# Altium footprint library Converter_ACDC.PcbLib: 42 footprints (part 1 of 3)
Each footprint in its own frame and in the unit in brackets; x right, y up, seen from the top. Pads: shape width x height; smd on the part's side, far side on the other; paste and mask are expansions set on the pad; w line width, h text height; cw(c..) or ccw(c..) is an arc to the next point about the centre after c.
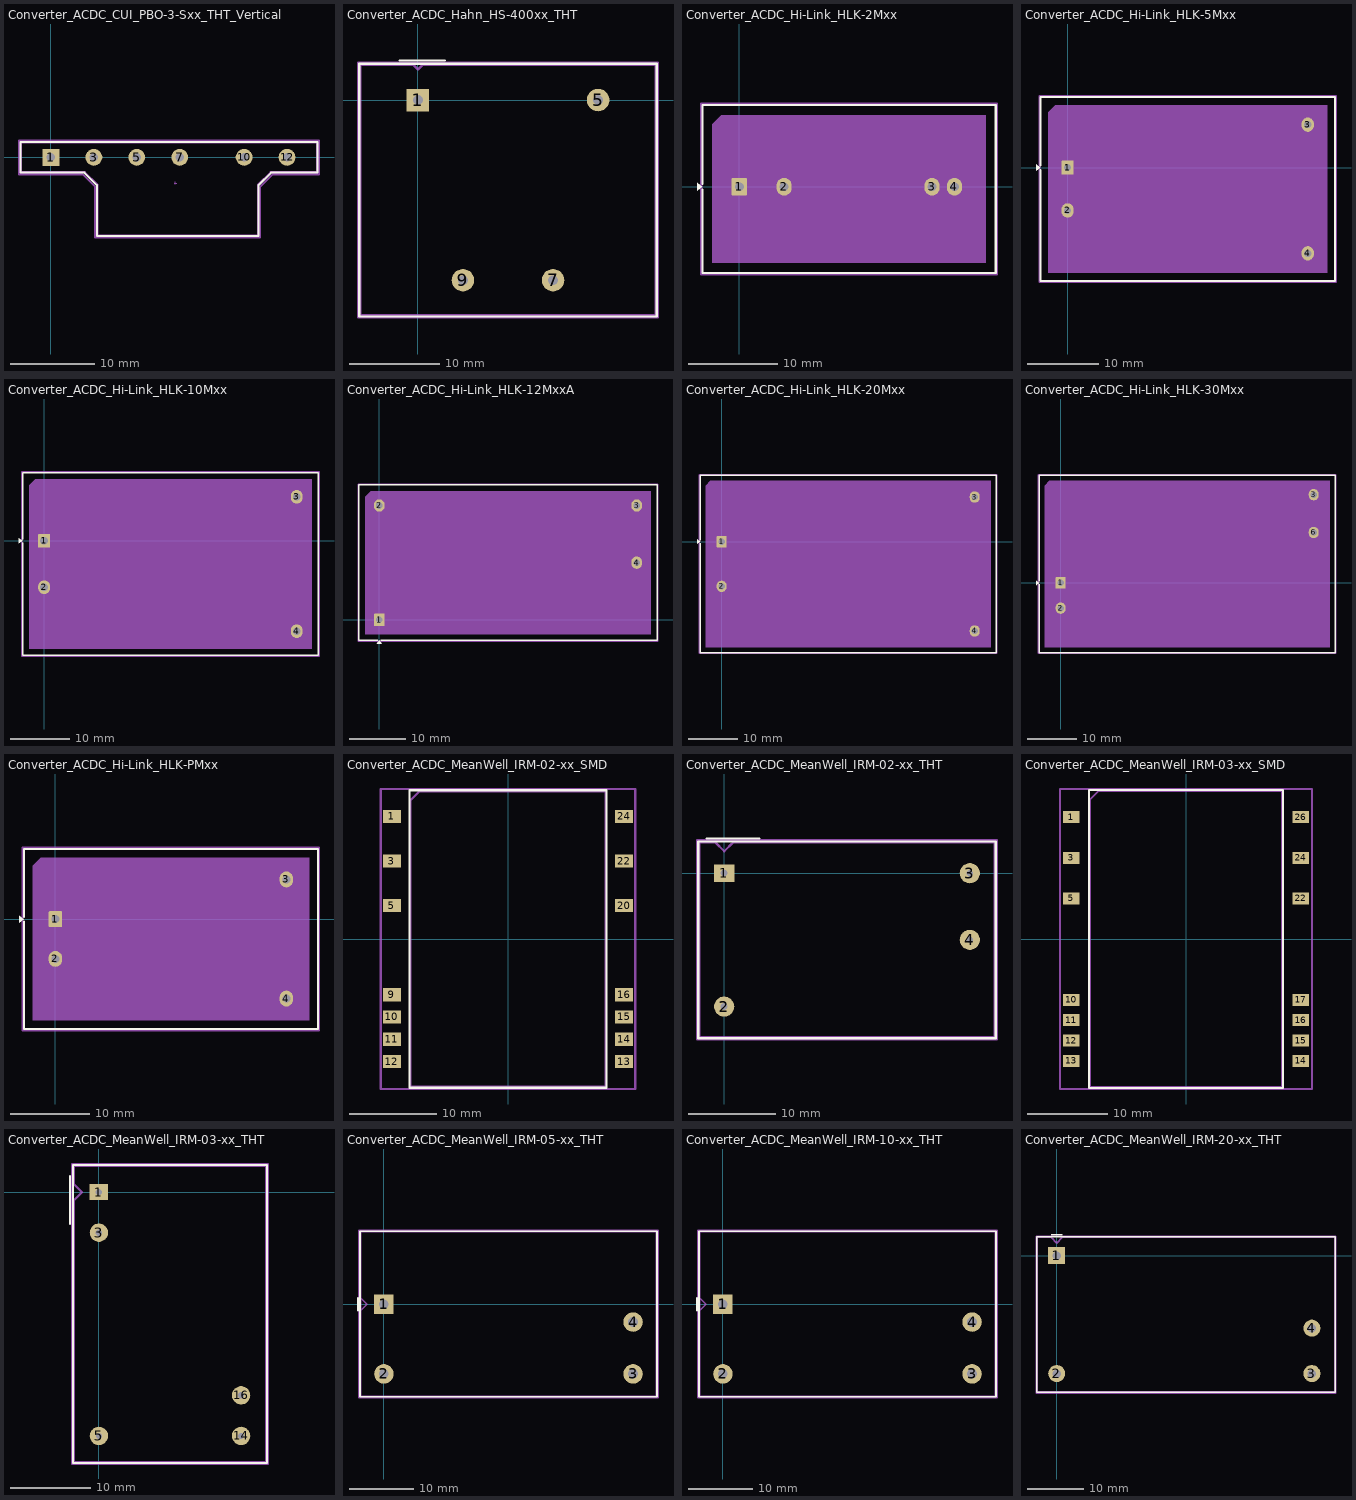
[diagram p0: the footprints below, top view; thin cyan lines are the x and y axes]

## Converter_ACDC_CUI_PBO-3-Sxx_THT_Vertical [mm]
pads (6):
  rect 2x2 hole 1: 1(0,0)
  round 2 hole 1: 3(5.08,0) 5(10.16,0) 7(15.24,0) 10(22.86,0) 12(27.94,0)
F.SilkS:
  lines w0.254: -3.59,-1.81 3.94,-1.81 5.44,-3.31 5.44,-9.31 24.56,-9.31 24.56,-3.31 26.06,-1.81 31.53,-1.81 31.53,1.81 -3.59,1.81 -3.59,-1.81
Top Component Center:
  lines w0.127: 14.605,-3.048 14.859,-3.048 ; 14.732,-3.175 14.732,-2.921
Top Assembly:
  lines w0.254: -3.53,-1.75 4,-1.75 5.5,-3.25 5.5,-9.25 24.5,-9.25 24.5,-3.25 26,-1.75 31.47,-1.75 31.47,1.75 -3.53,1.75 -3.53,-1.75
  text "'.Designator'" at 11.653,-5.74 h1
Top Courtyard:
  lines w0.254: -3.78,-2 3.75,-2 5.25,-3.5 5.25,-9.5 24.75,-9.5 24.75,-3.5 26.25,-2 31.72,-2 31.72,2 -3.78,2 -3.78,-2
Top Designator:
  text ".Designator" at 6.352,-4.258 h1.52

## Converter_ACDC_Hahn_HS-400xx_THT [mm]
pads (4):
  rect 2.5x2.5 hole 1.1: 1(0,0)
  round 2.5 hole 1.1: 5(20,0) 7(15,-20) 9(5,-20)
F.SilkS:
  lines w0.254: -2,4.4 3,4.4 ; -6.52,-24.02 26.52,-24.02 26.52,4.02 -6.52,4.02 -6.52,-24.02
Top Assembly:
  lines w0.254: -6.4,-23.9 26.4,-23.9 26.4,3.9 0.5,3.9 0,3.4 -0.5,3.9 -6.4,3.9 -6.4,-23.9
  text "'.Designator'" at 5.953,-10.84 h1
Top Courtyard:
  lines w0.254: -6.65,-24.15 26.65,-24.15 26.65,4.15 -6.65,4.15 -6.65,-24.15
Top Designator:
  text ".Designator" at 2.382,-10.383 h1.52

## Converter_ACDC_Hi-Link_HLK-2Mxx [mm]
pads (4):
  rrect15% 1.7x2 hole 1: 1(0,0)
  rrect100% 1.7x2 hole 1: 2(5,0) 3(21.5,0) 4(24,0)
F.SilkS:
  region: -4.11,0 -4.72,-0.44 -4.72,0.44
  lines w0.254: -4.11,-0.296 -4.11,-9.61 28.61,-9.61 28.61,9.11 -4.11,9.11 -4.11,0.296
Top Assembly:
  region: 27.5,-8.5 -3,-8.5 -3,7 -2,8 27.5,8
  text "'.Designator'" at 8.203,-1.09 h1
Top Courtyard:
  lines w0.254: -4.25,-9.75 28.75,-9.75 28.75,9.25 -4.25,9.25 -4.25,-9.75
Top Designator:
  text ".Designator" at 4.461,-0.758 h1.52

## Converter_ACDC_Hi-Link_HLK-5Mxx [mm]
pads (4):
  rrect15% 1.7x2 hole 1: 1(0,0)
  rrect100% 1.7x2 hole 1: 2(0,-6) 3(33.6,6) 4(33.6,-12)
F.SilkS:
  region: -3.81,0 -4.42,-0.44 -4.42,0.44
  lines w0.254: -3.81,-0.296 -3.81,-15.86 37.41,-15.86 37.41,9.86 -3.81,9.86 -3.81,0.296
Top Assembly:
  region: 36.3,-14.75 -2.7,-14.75 -2.7,7.75 -1.7,8.75 36.3,8.75
  text "'.Designator'" at 12.753,-3.84 h1
Top Courtyard:
  lines w0.254: -3.95,-16 37.55,-16 37.55,10 -3.95,10 -3.95,-16
Top Designator:
  text ".Designator" at 9.011,-3.508 h1.52

## Converter_ACDC_Hi-Link_HLK-10Mxx [mm]
pads (4):
  rrect12% 2x2.3 hole 1.3: 1(0,0)
  rrect100% 2x2.3 hole 1.3: 2(0,-7.8) 3(42.5,7.4) 4(42.5,-15.2)
F.SilkS:
  region: -3.61,0 -4.22,-0.44 -4.22,0.44
  lines w0.254: -3.61,-0.296 -3.61,-19.26 46.11,-19.26 46.11,11.46 -3.61,11.46 -3.61,0.296
Top Assembly:
  region: 45,-18.15 -2.5,-18.15 -2.5,9.35 -1.5,10.35 45,10.35
  text "'.Designator'" at 17.203,-4.74 h1
Top Courtyard:
  lines w0.254: -3.75,-19.4 46.25,-19.4 46.25,11.6 -3.75,11.6 -3.75,-19.4
Top Designator:
  text ".Designator" at 13.461,-4.408 h1.52

## Converter_ACDC_Hi-Link_HLK-12MxxA [mm]
pads (4):
  rrect13% 1.9x2.2 hole 1.2: 1(0,0)
  rrect100% 1.9x2.2 hole 1.2: 2(0,20.32) 3(45.72,20.32) 4(45.72,10.16)
F.SilkS:
  region: 0.44,-4.26 -0.44,-4.26 0,-3.65
  lines w0.254: -0.296,-3.65 -3.65,-3.65 -3.65,23.97 49.37,23.97 49.37,-3.65 0.296,-3.65
Top Assembly:
  region: 48.26,-2.54 -2.54,-2.54 -2.54,21.86 -1.54,22.86 48.26,22.86
  text "'.Designator'" at 18.813,9.32 h1
Top Courtyard:
  lines w0.254: -3.79,-3.79 49.51,-3.79 49.51,24.11 -3.79,24.11 -3.79,-3.79
Top Designator:
  text ".Designator" at 15.242,9.481 h1.52

## Converter_ACDC_Hi-Link_HLK-20Mxx [mm]
pads (4):
  rrect12% 2x2.3 hole 1.3: 1(0,0)
  rrect100% 2x2.3 hole 1.3: 2(0,-9) 3(51,9) 4(51,-18)
F.SilkS:
  region: -4.36,0 -4.97,-0.44 -4.97,0.44
  lines w0.254: -4.36,-0.296 -4.36,-22.36 55.36,-22.36 55.36,13.36 -4.36,13.36 -4.36,0.296
Top Assembly:
  region: 54.25,-21.25 -3.25,-21.25 -3.25,11.25 -2.25,12.25 54.25,12.25
  text "'.Designator'" at 21.453,-5.34 h1
Top Courtyard:
  lines w0.254: -4.5,-22.5 55.5,-22.5 55.5,13.5 -4.5,13.5 -4.5,-22.5
Top Designator:
  text ".Designator" at 17.711,-5.008 h1.52

## Converter_ACDC_Hi-Link_HLK-30Mxx [mm]
pads (4):
  rrect12% 2x2.3 hole 1.3: 1(0,0)
  rrect100% 2x2.3 hole 1.3: 2(0,-5.08) 3(51,17.78) 6(51,10.16)
F.SilkS:
  region: -4.36,0 -4.97,-0.44 -4.97,0.44
  lines w0.254: -4.36,-0.296 -4.36,-14.05 55.36,-14.05 55.36,21.67 -4.36,21.67 -4.36,0.296
Top Assembly:
  region: 54.25,-12.94 -3.25,-12.94 -3.25,19.56 -2.25,20.56 54.25,20.56
  text "'.Designator'" at 21.453,2.97 h1
Top Courtyard:
  lines w0.254: -4.5,-14.19 55.5,-14.19 55.5,21.81 -4.5,21.81 -4.5,-14.19
Top Designator:
  text ".Designator" at 17.711,3.302 h1.52

## Converter_ACDC_Hi-Link_HLK-PMxx [mm]
pads (4):
  rrect15% 1.7x2 hole 1: 1(0,0)
  rrect100% 1.7x2 hole 1: 2(0,-5) 3(29.08,5) 4(29.08,-10)
F.SilkS:
  region: -3.97,0 -4.58,-0.44 -4.58,0.44
  lines w0.254: -3.97,-0.296 -3.97,-13.86 33.05,-13.86 33.05,8.86 -3.97,8.86 -3.97,0.296
Top Assembly:
  region: 31.94,-12.75 -2.86,-12.75 -2.86,6.75 -1.86,7.75 31.94,7.75
  text "'.Designator'" at 10.493,-3.34 h1
Top Courtyard:
  lines w0.254: -4.11,-14 33.19,-14 33.19,9 -4.11,9 -4.11,-14
Top Designator:
  text ".Designator" at 6.751,-3.008 h1.52

## Converter_ACDC_MeanWell_IRM-02-xx_SMD [mm]
pads (14):
  rect 2.03x1.5 smd: 1(-13.235,13.97) 3(-13.235,8.89) 5(-13.235,3.81) 9(-13.235,-6.35) 10(-13.235,-8.89) 11(-13.235,-11.43) 12(-13.235,-13.97) 13(13.235,-13.97) 14(13.235,-11.43) 15(13.235,-8.89) 16(13.235,-6.35) 20(13.235,3.81) 22(13.235,8.89) 24(13.235,13.97)
F.SilkS:
  lines w0.254: -11.22,-16.97 11.22,-16.97 11.22,16.97 -11.22,16.97 -11.22,-16.97
Top Assembly:
  lines w0.254: -11.1,-16.85 11.1,-16.85 11.1,16.85 -10.1,16.85 -11.1,15.85 -11.1,-16.85
  text "'.Designator'" at -4.047,-0.84 h1
Top Courtyard:
  lines w0.254: -14.5,-17.1 14.5,-17.1 14.5,17.1 -14.5,17.1 -14.5,-17.1
Top Designator:
  text ".Designator" at -7.618,-0.508 h1.52

## Converter_ACDC_MeanWell_IRM-02-xx_THT [mm]
pads (4):
  rect 2.3x2 hole 0.8: 1(0,0)
  round 2.3 hole 0.8: 2(0,-15.2)
  round 2.3 hole 0.76: 3(28,0) 4(28,-7.6)
F.SilkS:
  lines w0.254: -2,3.95 4,3.95 ; -2.97,-18.82 30.97,-18.82 30.97,3.62 -2.97,3.62 -2.97,-18.82
Top Assembly:
  lines w0.254: -2.85,-18.7 30.85,-18.7 30.85,3.5 1,3.5 0,2.5 -1,3.5 -2.85,3.5 -2.85,-18.7
  text "'.Designator'" at 9.983,-8.31 h1
Top Courtyard:
  lines w0.254: -3.1,-18.95 31.1,-18.95 31.1,3.75 -3.1,3.75 -3.1,-18.95
Top Designator:
  text ".Designator" at 6.382,-8.008 h1.52

## Converter_ACDC_MeanWell_IRM-03-xx_SMD [mm]
pads (14):
  rect 2.03x1.5 smd: 1(-14.35,15.24) 3(-14.35,10.16) 5(-14.35,5.08) 10(-14.35,-7.62) 11(-14.35,-10.16) 12(-14.35,-12.7) 13(-14.35,-15.24) 14(14.35,-15.24) 15(14.35,-12.7) 16(14.35,-10.16) 17(14.35,-7.62) 22(14.35,5.08) 24(14.35,10.16) 26(14.35,15.24)
F.SilkS:
  lines w0.254: -12.12,-18.62 12.12,-18.62 12.12,18.62 -12.12,18.62 -12.12,-18.62
Top Assembly:
  lines w0.254: -12,-18.5 12,-18.5 12,18.5 -11,18.5 -12,17.5 -12,-18.5
  text "'.Designator'" at -4.047,-0.84 h1
Top Courtyard:
  lines w0.254: -15.75,-18.76 15.75,-18.76 15.75,18.76 -15.75,18.76 -15.75,-18.76
Top Designator:
  text ".Designator" at -7.618,-0.508 h1.52

## Converter_ACDC_MeanWell_IRM-03-xx_THT [mm]
pads (5):
  rect 2.3x2 hole 0.8: 1(0,0)
  round 2.3 hole 0.8: 3(0,-5.08)
  round 2.3 hole 0.76: 5(0,-30.48) 14(17.78,-30.48) 16(17.78,-25.4)
F.SilkS:
  lines w0.254: -3.61,-4 -3.61,2 ; -3.23,-33.86 21.01,-33.86 21.01,3.38 -3.23,3.38 -3.23,-33.86
Top Assembly:
  lines w0.254: -3.11,-33.74 20.89,-33.74 20.89,3.26 -3.11,3.26 -3.11,1 -2.11,0 -3.11,-1 -3.11,-33.74
  text "'.Designator'" at 4.843,-15.08 h1
Top Courtyard:
  lines w0.254: -3.36,-33.99 21.14,-33.99 21.14,3.51 -3.36,3.51 -3.36,-33.99
Top Designator:
  text ".Designator" at 1.147,-15.748 h1.52

## Converter_ACDC_MeanWell_IRM-05-xx_THT [mm]
pads (4):
  rect 3x3 hole 1.5: 1(0,0)
  round 3 hole 1.5: 2(0,-10.75) 3(38.5,-10.75) 4(38.5,-2.75)
F.SilkS:
  lines w0.254: -4,-1 -4,1 ; -3.7,-14.3 42.2,-14.3 42.2,11.3 -3.7,11.3 -3.7,-14.3
Top Assembly:
  lines w0.254: -3.6,-1 -2.6,0 -3.6,1 ; -3.6,-14.2 42.1,-14.2 42.1,11.2 -3.6,11.2 -3.6,-14.2
  text "'.Designator'" at 18.373,-1.32 h1
Top Courtyard:
  lines w0.254: -3.85,-14.45 42.35,-14.45 42.35,11.45 -3.85,11.45 -3.85,-14.45
Top Designator:
  text ".Designator" at 11.557,-2.008 h1.52

## Converter_ACDC_MeanWell_IRM-10-xx_THT [mm]
pads (4):
  rect 3x3 hole 1.5: 1(0,0)
  round 3 hole 1.5: 2(0,-10.75) 3(38.5,-10.75) 4(38.5,-2.75)
F.SilkS:
  lines w0.254: -4,-1 -4,1 ; -3.7,-14.3 42.2,-14.3 42.2,11.3 -3.7,11.3 -3.7,-14.3
Top Assembly:
  lines w0.254: -3.6,-1 -2.6,0 -3.6,1 ; -3.6,-14.2 42.1,-14.2 42.1,11.2 -3.6,11.2 -3.6,-14.2
  text "'.Designator'" at 18.373,-1.32 h1
Top Courtyard:
  lines w0.254: -3.85,-14.45 42.35,-14.45 42.35,11.45 -3.85,11.45 -3.85,-14.45
Top Designator:
  text ".Designator" at 11.557,-2.008 h1.52

## Converter_ACDC_MeanWell_IRM-20-xx_THT [mm]
pads (4):
  rect 3x3 hole 1.5: 1(0,0)
  round 3 hole 1.5: 2(0,-20.8) 3(45,-20.8) 4(45,-12.8)
F.SilkS:
  lines w0.254: -1,3.65 1,3.65 ; -3.52,-24.12 49.12,-24.12 49.12,3.32 -3.52,3.32 -3.52,-24.12
Top Assembly:
  lines w0.254: -3.4,-24 49,-24 49,3.2 1,3.2 0,2.2 -1,3.2 -3.4,3.2 -3.4,-24
  text "'.Designator'" at 18.453,-11.24 h1
Top Courtyard:
  lines w0.254: -3.65,-24.25 49.25,-24.25 49.25,3.45 -3.65,3.45 -3.65,-24.25
Top Designator:
  text ".Designator" at 15.182,-10.808 h1.52